# EAGLE library part PCF8574N (library PCF8574N)
REMOTE 8-BIT I/O EXPANDER FOR I2C BUS Source: Datasheet <http://componentsearchengine.com/Datasheets/3/PCF8574N.pdf>
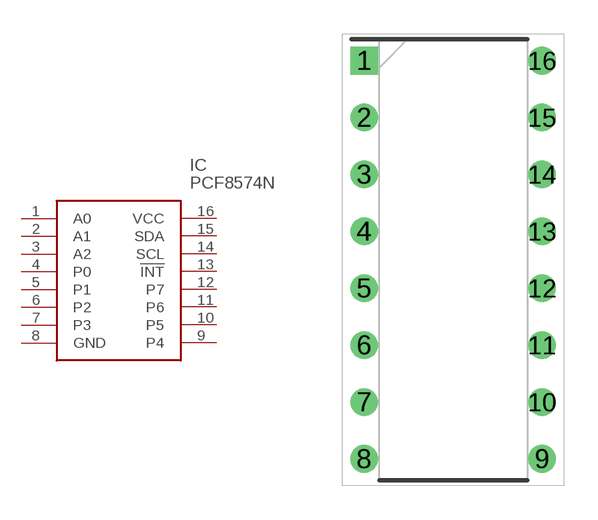
[diagram p0: symbol with the pads of DIP794W53P254L1930H508Q16N; footprint DIP794W53P254L1930H508Q16N]

Designator prefix IC

## PCF8574N (Arrow_Part_Number: PCF8574N; Arrow_Price-Stock: https://www.arrow.com/en/products/pcf8574n/texas-instruments; Description: REMOTE 8-BIT I/O EXPANDER FOR I2C BUS; Height: 5.08mm; Manufacturer_Name: Texas Instruments; Manufacturer_Part_Number: PCF8574N; Mouser_Part_Number: 595-PCF8574N; Mouser_Price-Stock: https://www.mouser.co.uk/ProductDetail/Texas-Instruments/PCF8574N?qs=L5CvrNUdZirGmsfmc3baKQ%3D%3D)  [DIP794W53P254L1930H508Q16N]
1  A0
2  A1
3  A2
4  P0
5  P1
6  P2
7  P3
8  GND
9  P4
10  P5
11  P6
12  P7
13  !INT
14  SCL
15  SDA
16  VCC

## Footprint DIP794W53P254L1930H508Q16N (pad centres in mm)
16 pdip-
drill 0.73 pad 1.13 square: 1 -3.97,8.89
drill 0.73 pad 1.13: 2 -3.97,6.35; 3 -3.97,3.81; 4 -3.97,1.27; 5 -3.97,-1.27; 6 -3.97,-3.81; 7 -3.97,-6.35; 8 -3.97,-8.89; 9 3.97,-8.89; 10 3.97,-6.35; 11 3.97,-3.81; 12 3.97,-1.27; 13 3.97,1.27; 14 3.97,3.81; 15 3.97,6.35; 16 3.97,8.89